# EAGLE library part 0371-131-X217 (library loranger)
QFN 13 LEAD SOCKET
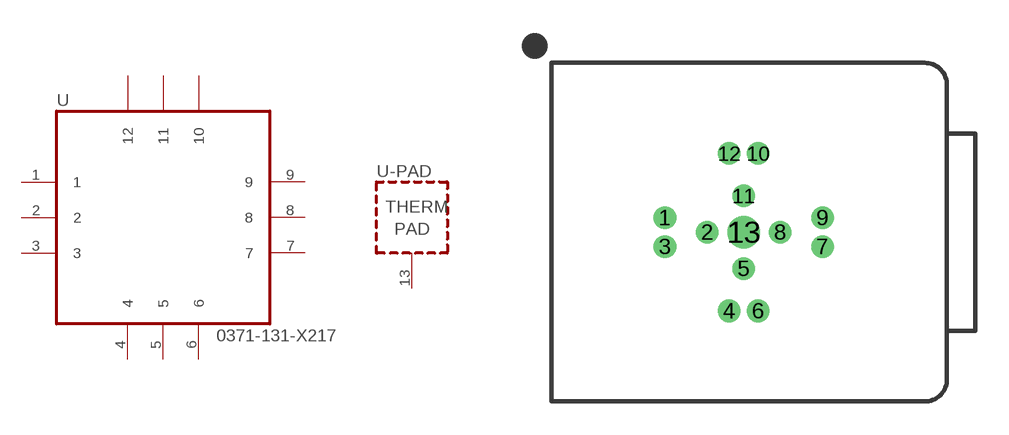
[diagram p0: symbol with the pads of 0371-131-X217; footprint 0371-131-X217]

Designator prefix U; gates G$1=QFN-12 -PAD=QFN-PAD

## 0371-131-X217  [0371-131-X217]
1  G$1:1
2  G$1:2
3  G$1:3
4  G$1:4
5  G$1:5
6  G$1:6
7  G$1:7
8  G$1:8
9  G$1:9
10  G$1:10
11  G$1:11
12  G$1:12
13  -PAD:P$1  pas

## Footprint 0371-131-X217 (pad centres in mm)
13 LEAD 3X2 QFN SOCKET
drill 0.508: 1 -3.543,0.65; 2 -1.638,0; 3 -3.543,-0.65; 4 -0.65,-3.543; 5 0,-1.638; 6 0.65,-3.543; 7 3.543,-0.65; 8 1.638,0; 9 3.543,0.65; 10 0.65,3.543; 11 0,1.638; 12 -0.65,3.543
drill 0.965: 13 0,0